# Altium footprint library parts.PcbLib: 6 footprints
Each footprint in its own frame and in the unit in brackets; x right, y up, seen from the top. Pads: shape width x height; smd on the part's side, far side on the other; paste and mask are expansions set on the pad; w line width, h text height; cw(c..) or ccw(c..) is an arc to the next point about the centre after c.
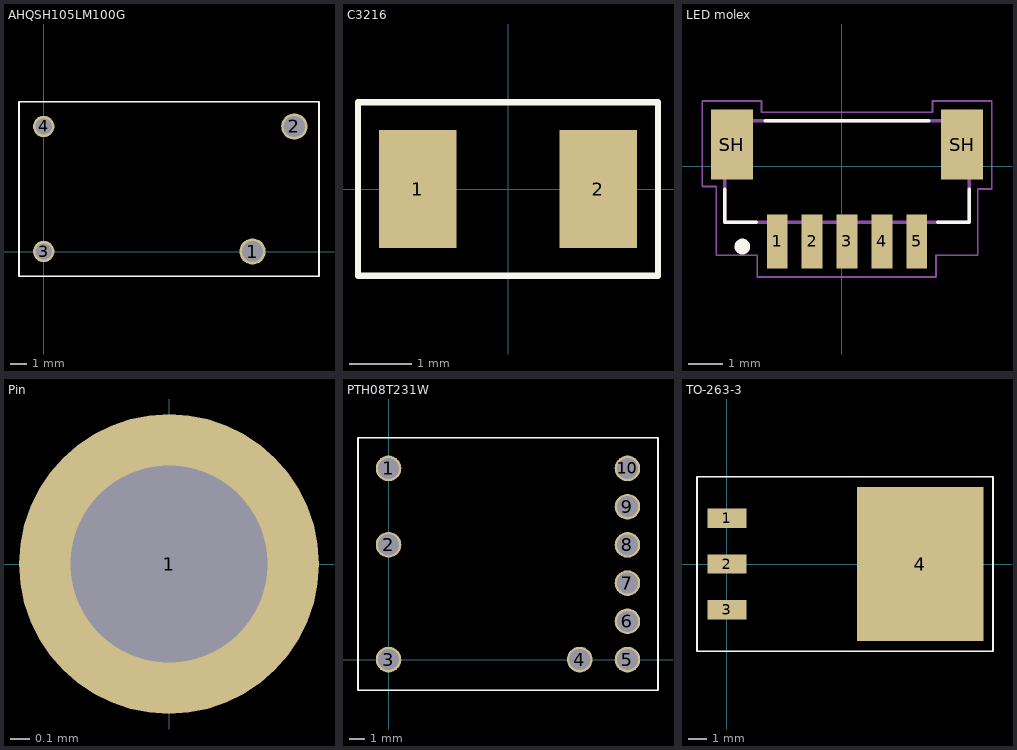
[diagram p0: the footprints below, top view; thin cyan lines are the x and y axes]

## AHQSH105LM100G [mm]
pads (4):
  round 1.6 hole 1.3: 1(12.7,0) 2(15.24,7.6)
  round 1.3 hole 1: 3(0,0) 4(0,7.6)
Top Overlay:
  lines w0.1: -1.5,-1.5 -1.5,9.1 16.74,9.1 16.74,-1.5 -1.5,-1.5

## C3216 [mm]
pads (2):
  rect 1.25x1.9 smd: 1(-1.45,0) 2(1.45,0)
Top Overlay:
  lines w0.1: -2.413,-1.397 -2.413,1.397 2.413,1.397 2.413,-1.397 -2.413,-1.397

## LED molex [mm]
pads (7):
  rect 0.6x1.55 smd paste-0.025 mask+0.05: 1(-1.85,-2.15) 2(-0.85,-2.15) 3(0.15,-2.15) 4(1.15,-2.15) 5(2.15,-2.15)
  rect 1.2x2 smd paste-0.025 mask+0.05: SH(-3.15,0.625) SH(3.45,0.625)
Top Overlay:
  circle w0.25: c-2.85,-2.3 r0.1
  lines w0.1: -3.35,-0.65 -3.35,-1.6 -2.45,-1.6 ; -2.2,1.3 2.5,1.3 ; 2.75,-1.6 3.65,-1.6 3.65,-0.65
Top Assembly:
  lines w0.1: -2.05,-1.6 -2.05,-2.4 -1.65,-2.4 -1.65,-1.6 ; -1.05,-1.6 -1.05,-2.4 -0.65,-2.4 -0.65,-1.6 ; -0.05,-1.6 -0.05,-2.4 0.35,-2.4 0.35,-1.6 ; 0.95,-1.6 0.95,-2.4 1.35,-2.4 1.35,-1.6 ; 1.95,-1.6 1.95,-2.4 2.35,-2.4 2.35,-1.6 ; -3.35,-1.6 3.65,-1.6 3.65,1.3 -3.35,1.3 -3.35,-1.6
  text "1" at -2.05,-1.1 h1
  text "5" at 1.95,-1.1 h1
  text ".Designator" at -1.25,0 h0.8
Top Courtyard:
  lines w0.05: -4,-0.575 -4,1.875 -2.3,1.875 -2.3,1.55 2.6,1.55 2.6,1.875 4.3,1.875 4.3,-0.65 3.9,-0.65 3.9,-2.55 2.7,-2.55 2.7,-3.175 -2.425,-3.175 -2.425,-2.55 -3.6,-2.55 -3.6,-0.575 -4,-0.575
3D body "BM05B-SRSS-TB.STEP": height 4.28, standoff -0.04, extent -3.35,-2.3 3.65,1.3

## Pin [mil] "Test pin"
pads (1):
  round 60 hole 39.37: 1(0,0)

## PTH08T231W [mm]
pads (10):
  round 1.7 hole 1.4: 1(0,12.7) 2(0,7.63) 3(0,0) 4(12.7,0) 5(15.87,0) 6(15.87,2.54) 7(15.87,5.08) 8(15.87,7.62) 9(15.87,10.16) 10(15.87,12.7)
Top Overlay:
  lines w0.1: -2.03,-2.03 17.9,-2.03 17.9,14.73 -2.03,14.73 -2.03,-2.03

## TO-263-3 [mm]
pads (4):
  rect 2.16x1.07 smd: 1(0,2.54) 2(0,0) 3(0,-2.54)
  rect 7x8.5 smd: 4(10.7,0)
Top Overlay:
  lines w0.1: -1.651,-4.826 14.732,-4.826 14.732,4.826 -1.651,4.826 -1.651,-4.826